# EAGLE library part 1LINE_SOCKET_2MM_12 (library my_con)
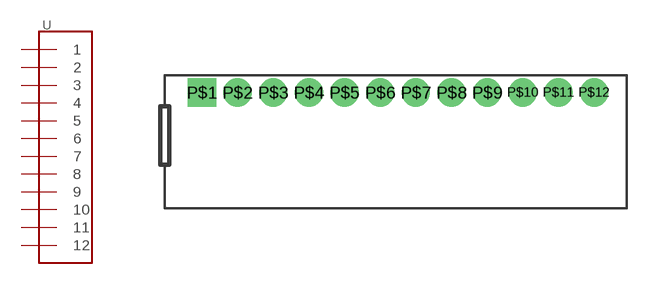
[diagram p3: symbol with the pads of 1LINE_SOCKET_2MM_12; footprint 1LINE_SOCKET_2MM_12]

Designator prefix -

## 1LINE_SOCKET_2MM_12  [1LINE_SOCKET_2MM_12]
P$1  1  pas
P$2  2  pas
P$3  3  pas
P$4  4  pas
P$5  5  pas
P$6  6  pas
P$7  7  pas
P$8  8  pas
P$9  9  pas
P$10  10  pas
P$11  11  pas
P$12  12  pas

## Footprint 1LINE_SOCKET_2MM_12 (pad centres in mm)
drill 0.85 pad 1.587 square: P$1 -3,0
drill 0.85 pad 1.587: P$2 -1,0; P$3 1,0; P$4 3,0; P$5 5,0; P$6 7,0; P$7 9,0; P$8 11,0; P$9 13,0; P$10 15,0; P$11 17,0; P$12 19,0